# Altium schematic symbol library DMP3105LVT.Schlib: 1 symbol
Pins are listed as number, name and electrical type; pins without a type are passive.

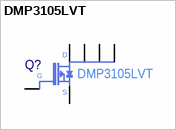
[diagram p0: symbol DMP3105LVT]

## DMP3105LVT
designator Q?
Manufacturer Part Number: DMP3105LVT
pins: 1 D, 2 D, 3 G, 4 S, 5 D, 6 D